# Altium schematic symbol library YuHunXP.SchLib: 4 symbols
Pins are listed as number, name and electrical type; pins without a type are passive.

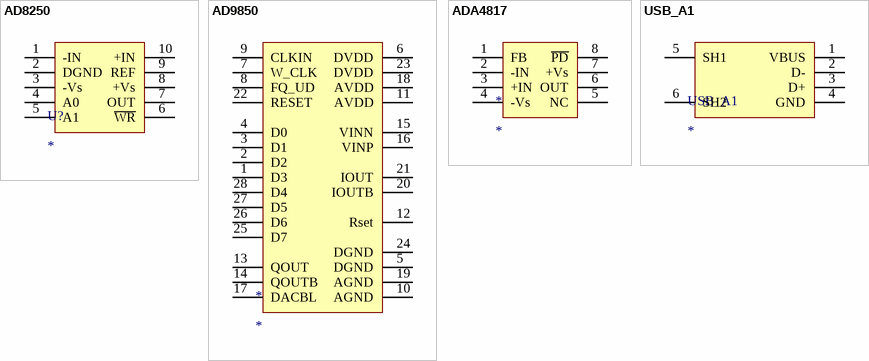
[diagram p0: symbols AD8250 to USB_A1]

## AD8250
designator U?
footprint AD8250
pins: 1 -IN, 2 DGND, 3 -Vs, 4 A0, 5 A1, 6 ~{WR}, 7 OUT, 8 +Vs, 9 REF, 10 +IN

## AD9850
designator *
footprint AD9850
pins: 1 D3, 2 D2, 3 D1, 4 D0, 5 DGND, 6 DVDD, 7 W_CLK, 8 FQ_UD, 9 CLKIN, 10 AGND, 11 AVDD, 12 Rset, 13 QOUT, 14 QOUTB, 15 VINN, 16 VINP, 17 DACBL, 18 AVDD, 19 AGND, 20 IOUTB, 21 IOUT, 22 RESET, 23 DVDD, 24 DGND, 25 D7, 26 D6, 27 D5, 28 D4

## ADA4817
designator *
footprint ADA4817
pins: 1 FB, 2 -IN, 3 +IN, 4 -Vs, 5 NC, 6 OUT, 7 +Vs, 8 ~{PD}

## USB_A1
designator USB_A1
USBReceptacleForPower
footprint USB (USBReceptacleForPower)
pins: 1 VBUS, 2 D-, 3 D+, 4 GND, 5 SH1, 6 SH2